# Altium schematic symbol library SI5338Q-B-GM.SchLib: 1 symbol
Pins are listed as number, name and electrical type; pins without a type are passive.

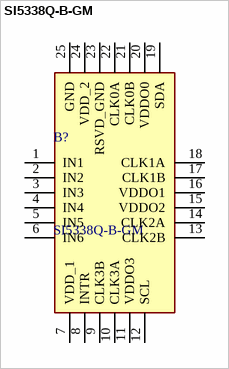
[diagram p0: symbol SI5338Q-B-GM]

## SI5338Q-B-GM
designator B?
Clock Generators & Support Products I2C control, 4-output, any frequency (< 200 MHz), any output, clock generator (2 diff, 2 SE); Manufacturer_Name: Skyworks; Geometry.Height: 0.9mm; Mouser Part Number: 634-SI5338Q-B-GM; Mouser Price/Stock: https://www.mouser.co.uk/ProductDetail/Skyworks-Solutions-Inc/SI5338Q-B-GM?qs=gjQ0PIzz%2F1MzmGBnBCHNRg%3D%3D; Manufacturer_Part_Number: SI5338Q-B-GM; Datasheet Link: https://www.skyworksinc.com/-/media/SkyWorks/SL/documents/public/data-sheets/Si5338.pdf
footprint SI5338QBGM
pins: 1 IN1, 2 IN2, 3 IN3, 4 IN4, 5 IN5, 6 IN6, 7 VDD_1, 8 INTR, 9 CLK3B, 10 CLK3A, 11 VDDO3, 12 SCL, 13 CLK2B, 14 CLK2A, 15 VDDO2, 16 VDDO1, 17 CLK1B, 18 CLK1A, 19 SDA, 20 VDDO0, 21 CLK0B, 22 CLK0A, 23 RSVD_GND, 24 VDD_2, 25 GND